# Altium footprint library SEC_3002_DZ&HL.PcbLib: 65 footprints (part 3 of 5)
Each footprint in its own frame and in the unit in brackets; x right, y up, seen from the top. Pads: shape width x height; smd on the part's side, far side on the other; paste and mask are expansions set on the pad; w line width, h text height; cw(c..) or ccw(c..) is an arc to the next point about the centre after c.
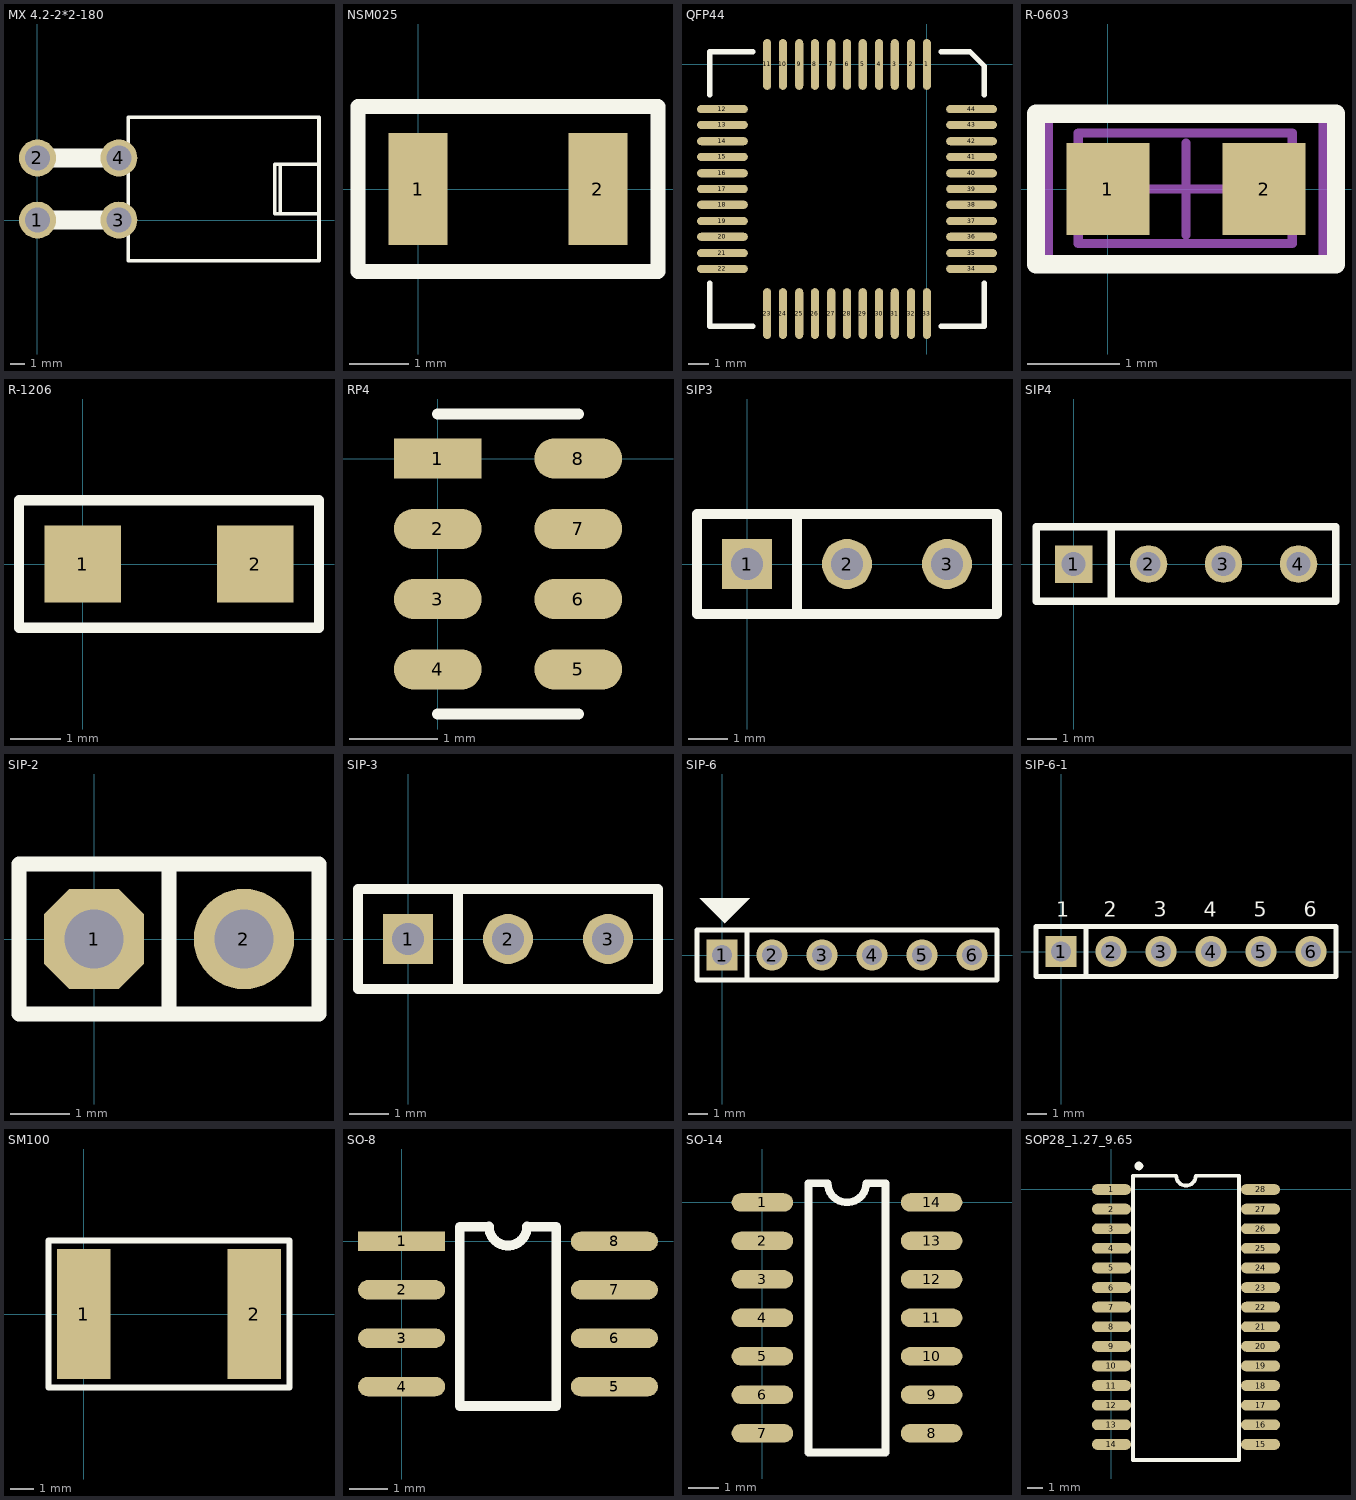
[diagram p2: the footprints below, top view; thin cyan lines are the x and y axes]

## MX 4.2-2*2-180 [mm]
pads (4):
  round 2.5 hole 1.7: 1(0,0) 2(0,4.2) 3(5.5,0) 4(5.5,4.2)
Top Overlay:
  lines w0.254: 16.415,0.437 16.415,3.767 ; 19.003,3.767 16.034,3.767 16.034,0.437 19.009,0.437 ; 6.128,-2.748 19.028,-2.748 19.028,6.952 6.128,6.952 6.128,-2.748
  lines w1.27: 0,0 5.5,0 ; 0,4.2 5.5,4.2

## NSM025 [mm]
pads (2):
  rect 1x1.9 smd: 1(0,0) 2(3.048,0)
Top Overlay:
  lines w0.254: -1.016,-1.397 4.064,-1.397 4.064,1.397 -1.016,1.397 -1.016,-1.397

## QFP44 [mil]
height 53.15
pads (44):
  oval 16x100 smd: 1(0,0) 2(-31,0) 3(-63,0) 4(-94,0) 5(-126,0) 6(-157,0) 7(-188,0) 8(-220,0) 9(-251,0) 10(-283,0) 11(-314,0) 23(-314,-490) 24(-283,-490) 25(-251,-490) 26(-220,-490) 27(-188,-490) 28(-157,-490) 29(-126,-490) 30(-94,-490) 31(-63,-490) 32(-31,-490) 33(0,-490)
  oval 100x16 smd: 12(-402,-88) 13(-402,-119) 14(-402,-151) 15(-402,-182) 16(-402,-214) 17(-402,-245) 18(-402,-276) 19(-402,-308) 20(-402,-339) 21(-402,-371) 22(-402,-402) 34(88,-402) 35(88,-371) 36(88,-339) 37(88,-308) 38(88,-276) 39(88,-245) 40(88,-214) 41(88,-182) 42(88,-151) 43(88,-119) 44(88,-88)
Top Overlay:
  lines w10: -427,-430 -427,-515 -342,-515 ; -427,-60 -427,25 -342,25 ; 28,-515 113,-515 113,-430 ; 28,25 85,25 113,-3 113,-60

## R-0603 [mm]
pads (2):
  rect 0.9x1 smd: 1(0,0) 2(1.7,0)
Top Overlay:
  lines w0.2: 1.35,-0.82 2.484,-0.82 2.484,0.82 1.35,0.82 ; 1.36,0.82 -0.784,0.82 -0.784,-0.82 1.373,-0.82
Mechanical 13:
  lines w0.1: -0.322,-0.593 -0.322,0.611 2.007,0.611 2.007,-0.593 -0.322,-0.593
Mechanical 15:
  lines w0.1: 0.35,0 1.35,0 ; 0.85,-0.5 0.85,0.5 ; -0.65,-0.8 -0.65,0.8 2.342,0.8 2.342,-0.8 -0.65,-0.8
3D body: height 1.4, standoff 0, extent -0.325,-0.611 2.028,0.625

## R-1206 [mil]
pads (2):
  rect 60x60 smd: 1(0,0) 2(135,0)
Top Overlay:
  lines w8: -48.15,-50 185,-50 185,50 110,50 ; 25,-50 -50,-50 -50,50 184.34,50

## RP4 [mm]
pads (8):
  rect 1x0.457 smd: 1(0,0)
  oval 1x0.457 smd: 2(0,-0.8) 3(0,-1.6) 4(0,-2.4) 5(1.6,-2.4) 6(1.6,-1.6) 7(1.6,-0.8) 8(1.6,0)
Top Overlay:
  lines w0.127: 0,-2.908 1.6,-2.908 ; 0,0.508 1.6,0.508

## SIP3 [mil]
pads (3):
  rect 50x50 hole 32: 1(0,0)
  round 50 hole 32: 2(100,0) 3(200,0)
Top Overlay:
  lines w10: 50,-50 50,50 ; -50,-50 250,-50 250,50 -50,50 -50,-50

## SIP4 [mil]
pads (4):
  rect 50x50 hole 32: 1(0,0)
  round 50 hole 32: 2(100,0) 3(200,0) 4(300,0)
Top Overlay:
  lines w10: 50,-50 50,50 ; -50,-50 350,-50 350,50 -50,50 -50,-50

## SIP-2 [mm]
pads (2):
  oct 1.7x1.7 hole 1: 1(0,0)
  round 1.7 hole 1: 2(2.54,0)
Top Overlay:
  lines w0.254: 1.27,-1.27 1.27,1.27 ; -1.27,-1.27 -1.27,1.27 3.81,1.27 3.81,-1.27 -1.27,-1.27

## SIP-3 [mil]
pads (3):
  rect 50x50 hole 32: 1(0,0)
  round 50 hole 32: 2(100,0) 3(200,0)
Top Overlay:
  lines w10: 50,-50 50,50 ; -50,-50 -50,50 250,50 250,-50 -50,-50

## SIP-6 [mm]
pads (6):
  rect 1.6x1.6 hole 1: 1(0,0)
  round 1.6 hole 1: 2(2.54,0) 3(5.08,0) 4(7.62,0) 5(10.16,0) 6(12.7,0)
Top Overlay:
  region: -1.143,2.896 0.127,1.626 1.397,2.896
  lines w0.254: 1.27,-1.27 1.27,1.27 ; -1.27,-1.27 -1.27,1.27 13.97,1.27 13.97,-1.27 -1.27,-1.27

## SIP-6-1 [mm]
pads (6):
  rect 1.6x1.6 hole 1: 1(0,0)
  round 1.6 hole 1: 2(2.54,0) 3(5.08,0) 4(7.62,0) 5(10.16,0) 6(12.7,0)
Top Overlay:
  lines w0.254: 1.27,-1.27 1.27,1.27 ; -1.27,-1.27 -1.27,1.27 13.97,1.27 13.97,-1.27 -1.27,-1.27
  text "1" at -0.254,1.778 h0.76
  text "3" at 4.699,1.778 h0.76
  text "4" at 7.239,1.778 h0.76
  text "5" at 9.779,1.778 h0.76
  text "6" at 12.319,1.778 h0.76
  text "2" at 2.159,1.778 h0.76

## SM100 [mm]
pads (2):
  rect 2.3x5.6 smd: 1(0,0) 2(7.366,0)
Top Overlay:
  lines w0.254: -1.524,-3.175 8.89,-3.175 8.89,3.175 -1.524,3.175 -1.524,-3.175

## SO-8 [mil]
height 53.15
pads (8):
  rect 90x20 smd: 1(0,0)
  oval 90x20 smd: 2(0,-50) 3(0,-100) 4(0,-150) 5(220,-150) 6(220,-100) 7(220,-50) 8(220,0)
Top Overlay:
  lines w10: 90,15 60,15 60,-170 160,-170 160,15 130,15 ; 90.31,15.35 ccw(c110,15.35) 129.69,15.35

## SO-14 [mil]
pads (14):
  oval 80x24 smd: 1(0,0) 2(0,-50) 3(0,-100) 4(0,-150) 5(0,-200) 6(0,-250) 7(0,-300) 8(220,-300) 9(220,-250) 10(220,-200) 11(220,-150) 12(220,-100) 13(220,-50) 14(220,0)
Top Overlay:
  lines w10: 60,-325 60,25 85,25 ccw(c110,25) 135,25 160,25 160,-325 60,-325

## SOP28_1.27_9.65 [mm]
height 1.35
pads (28):
  oval 2.54x0.7 smd: 1(0,0) 2(0,-1.27) 3(0,-2.54) 4(0,-3.81) 5(0,-5.08) 6(0,-6.35) 7(0,-7.62) 8(0,-8.89) 9(0,-10.16) 10(0,-11.43) 11(0,-12.7) 12(0,-13.97) 13(0,-15.24) 14(0,-16.51) 15(9.652,-16.51) 16(9.652,-15.24) 17(9.652,-13.97) 18(9.652,-12.7) 19(9.652,-11.43) 20(9.652,-10.16) 21(9.652,-8.89) 22(9.652,-7.62) 23(9.652,-6.35) 24(9.652,-5.08) 25(9.652,-3.81) 26(9.652,-2.54) 27(9.652,-1.27) 28(9.652,0)
Top Overlay:
  circle w0.305: c1.778,1.524 r0.127
  lines w0.254: 1.397,-17.526 8.255,-17.526 8.255,0.889 5.461,0.889 cw(c4.826,0.889) 4.191,0.889 1.397,0.889 1.397,-17.526